# EAGLE library part QSE-020-02 (library con-samtec)
0,80mm HI-SPEED SOCKET QSE Serie Source: http://www.samtec.com/ftppub/cpdf/QSE-XXX-01-X-D-XX-FOOTPRINT.pdf http://www.samtec.com/ftppub/pdf/QSE.PDF
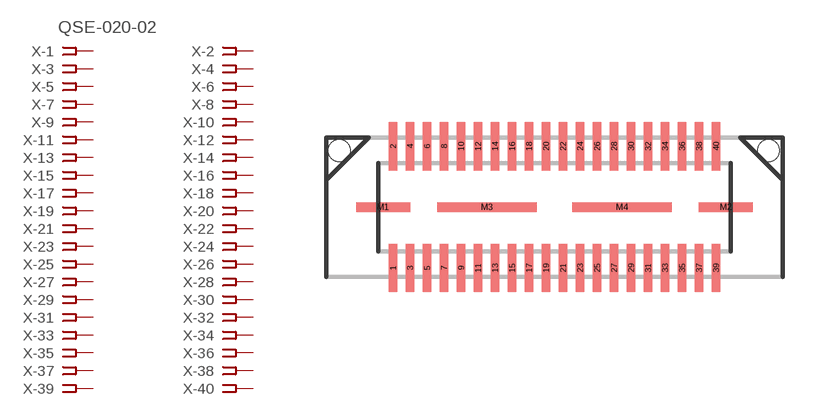
[diagram p3: symbol with the pads of QSE-020-02; footprint QSE-020-02]

Designator prefix X; gates -1=FPINV -2=FPIN -3=FPIN -4=FPIN -5=FPIN -6=FPIN -7=FPIN -8=FPIN -9=FPIN -10=FPIN -11=FPIN -12=FPIN -13=FPIN -14=FPIN -15=FPIN -16=FPIN -17=FPIN -18=FPIN -19=FPIN -20=FPIN -21=FPIN -22=FPIN -23=FPIN -24=FPIN -25=FPIN -26=FPIN -27=FPIN -28=FPIN -29=FPIN -30=FPIN -31=FPIN -32=FPIN -33=FPIN -34=FPIN -35=FPIN -36=FPIN -37=FPIN -38=FPIN -39=FPIN -40=FPIN

## QSE-020-02  [QSE-020-02]
1  -1:1  pas
2  -2:1  pas
3  -3:1  pas
4  -4:1  pas
5  -5:1  pas
6  -6:1  pas
7  -7:1  pas
8  -8:1  pas
9  -9:1  pas
10  -10:1  pas
11  -11:1  pas
12  -12:1  pas
13  -13:1  pas
14  -14:1  pas
15  -15:1  pas
16  -16:1  pas
17  -17:1  pas
18  -18:1  pas
19  -19:1  pas
20  -20:1  pas
21  -21:1  pas
22  -22:1  pas
23  -23:1  pas
24  -24:1  pas
25  -25:1  pas
26  -26:1  pas
27  -27:1  pas
28  -28:1  pas
29  -29:1  pas
30  -30:1  pas
31  -31:1  pas
32  -32:1  pas
33  -33:1  pas
34  -34:1  pas
35  -35:1  pas
36  -36:1  pas
37  -37:1  pas
38  -38:1  pas
39  -39:1  pas
40  -40:1  pas

## Footprint QSE-020-02 (pad centres in mm)
0,80mm HI-SPEED SOCKET QSE Serie Source: http://www.samtec.com/ftppub/cpdf/QSE-XXX-01-X-D-XX-FOOTPRINT.pdf http://www.samtec.com/ftppub/pdf/QSE.PDF
smd 0.41 x 2.27: 1 -7.595,-2.86; 2 -7.595,2.87; 3 -6.795,-2.86; 4 -6.795,2.87; 5 -5.995,-2.86; 6 -5.995,2.87; 7 -5.195,-2.86; 8 -5.195,2.87; 9 -4.395,-2.86; 10 -4.395,2.87; 11 -3.595,-2.86; 12 -3.595,2.87; 13 -2.795,-2.86; 14 -2.795,2.87; 15 -1.995,-2.86; 16 -1.995,2.87; 17 -1.195,-2.86; 18 -1.195,2.87; 19 -0.395,-2.86; 20 -0.395,2.87; 21 0.405,-2.86; 22 0.405,2.87; 23 1.205,-2.86; 24 1.205,2.87; 25 2.005,-2.86; 26 2.005,2.87; 27 2.805,-2.86; 28 2.805,2.87; 29 3.605,-2.86; 30 3.605,2.87; 31 4.405,-2.86; 32 4.405,2.87; 33 5.205,-2.86; 34 5.205,2.87; 35 6.005,-2.86; 36 6.005,2.87; 37 6.805,-2.86; 38 6.805,2.87; 39 7.605,-2.86; 40 7.605,2.87
smd 2.54 x 0.43: M1 -8.065,0; M2 8.065,0
smd 4.7 x 0.43: M3 -3.175,0; M4 3.175,0
hole 1.02 at -10.13,2.67
hole 1.02 at 10.065,2.67